# Altium footprint library Transistor.PcbLib: 2 footprints
Each footprint in its own frame and in the unit in brackets; x right, y up, seen from the top. Pads: shape width x height; smd on the part's side, far side on the other; paste and mask are expansions set on the pad; w line width, h text height; cw(c..) or ccw(c..) is an arc to the next point about the centre after c.
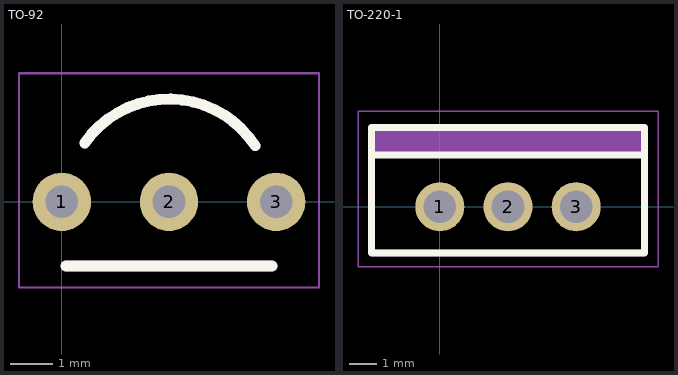
[diagram p0: the footprints below, top view; thin cyan lines are the x and y axes]

## TO-92 [mm]
pads (3):
  round 1.36 hole 0.76: 1(0,0) 2(2.5,0) 3(5,0)
Top Overlay:
  lines w0.254: 0.1,-1.5 2.5,-1.5 4.9,-1.5 ; 0.534,1.376 cw(c2.5,0) 4.512,1.308
Mechanical 13:
  lines w0.254: 0.1,-1.5 2.5,-1.5 4.9,-1.5 ; 0.534,1.376 cw(c2.5,0) 4.512,1.308
Mechanical 15:
  lines w0.05: -1,-2 -1,3 6,3 6,-2 -1,-2
3D body: height 9, standoff 4, extent 0,-1.5 5,2.4

## TO-220-1 [mm]
pads (3):
  round 1.8 hole 1.2: 1(0,0) 2(2.5,0) 3(5,0)
Top Overlay:
  lines w0.254: -2.5,1.9 7.5,1.9 ; -2.5,-1.7 -2.5,2.9 7.5,2.9 7.5,-1.7 -2.5,-1.7
Mechanical 13:
  rectangle: -2.5,1.9 7.5,2.9
  lines w0.254: -2.5,-1.7 7.5,-1.7 7.5,2.9 -2.5,2.9 -2.5,-1.7
Mechanical 15:
  lines w0.05: -3,-2.2 8,-2.2 8,3.5 -3,3.5 -3,-2.2
3D body: height 19, standoff 4, extent -2.5,-1.7 7.5,2.9